# Altium schematic symbol library IC_Marvell_88E1111-B2-BAB1C000_eec.SchLib: 1 symbol
Pins are listed as number, name and electrical type; pins without a type are passive.

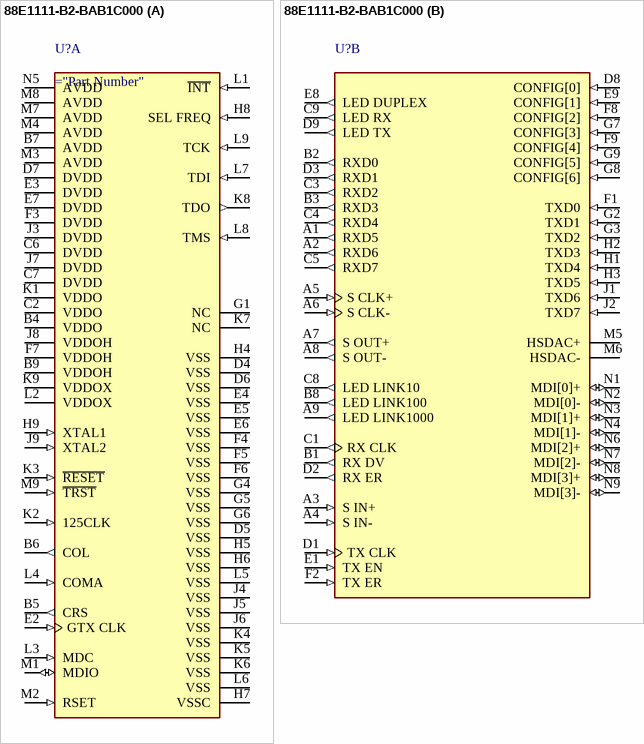
[diagram p0: symbol 88E1111-B2-BAB1C000]

## 88E1111-B2-BAB1C000
designator U?  (value not drawn)
part A pins: B4 VDDO (power), B5 CRS (out), B6 COL (out), B7 AVDD (power), B9 VDDOH (power), C2 VDDO (power), C6 DVDD (power), C7 DVDD (power), D4 VSS (power), D5 VSS (power), D6 VSS (power), D7 DVDD (power), E2 GTX CLK (in), E3 DVDD (power), E4 VSS (power), E5 VSS (power), E6 VSS (power), E7 DVDD (power), F3 DVDD (power), F4 VSS (power), F5 VSS (power), F6 VSS (power), F7 VDDOH (power), G1 NC, G4 VSS (power), G5 VSS (power), G6 VSS (power), H4 VSS (power), H5 VSS (power), H6 VSS (power), H7 VSSC (power), H8 SEL FREQ (in), H9 XTAL1 (in), J3 DVDD (power), J4 VSS (power), J5 VSS (power), J6 VSS (power), J7 DVDD (power), J8 VDDOH (power), J9 XTAL2 (in), K1 VDDO (power), K2 125CLK (in), K3 ~{RESET} (in), K4 VSS (power), K5 VSS (power), K6 VSS (power), K7 NC, K8 TDO (out), K9 VDDOX (power), L1 ~{INT} (in), L2 VDDOX (power), L3 MDC (in), L4 COMA (in), L5 VSS (power), L6 VSS (power), L7 TDI (in), L8 TMS (in), L9 TCK (in), M1 MDIO (io), M2 RSET (in), M3 AVDD (power), M4 AVDD (power), M7 AVDD (power), M8 AVDD (power), M9 ~{TRST} (in), N5 AVDD (power)
part B pins: A1 RXD5 (out), A2 RXD6 (out), A3 S IN+ (in), A4 S IN- (in), A5 S CLK+ (in), A6 S CLK- (in), A7 S OUT+ (out), A8 S OUT- (out), A9 LED LINK1000 (out), B1 RX DV (out), B2 RXD0 (out), B3 RXD3 (out), B8 LED LINK100 (out), C1 RX CLK (out), C3 RXD2 (out), C4 RXD4 (out), C5 RXD7 (out), C8 LED LINK10 (out), C9 LED RX (out), D1 TX CLK (in), D2 RX ER (out), D3 RXD1 (out), D8 CONFIG[0] (in), D9 LED TX (out), E1 TX EN (in), E8 LED DUPLEX (out), E9 CONFIG[1] (in), F1 TXD0 (in), F2 TX ER (in), F8 CONFIG[2] (in), F9 CONFIG[4] (in), G2 TXD1 (in), G3 TXD2 (in), G7 CONFIG[3] (in), G8 CONFIG[6] (in), G9 CONFIG[5] (in), H1 TXD4 (in), H2 TXD3 (in), H3 TXD5 (in), J1 TXD6 (in), J2 TXD7 (in), M5 HSDAC+, M6 HSDAC-, N1 MDI[0]+ (io), N2 MDI[0]- (io), N3 MDI[1]+ (io), N4 MDI[1]- (io), N6 MDI[2]+ (io), N7 MDI[2]- (io), N8 MDI[3]+ (io), N9 MDI[3]- (io)